# Altium integrated library Control_board.IntLib: 3 symbols
Pins are listed as number, name and electrical type; pins without a type are passive.

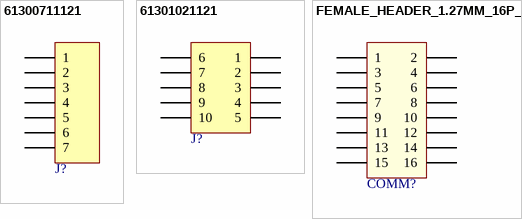
[diagram p0: symbols 61300711121 to FEMALE_HEADER_1.27MM_16P_2x8]

## 61300711121
designator J?, comment 07p  (value not drawn)
WR-PHD 2.54 mm THT Pin Header, 07p; Part Number: 61300711121; Vendor: Wurth Elektronik; Value: 07p
footprint 61300711121
pins: 1, 2, 3, 4, 5, 6, 7

## 61301021121
designator J?, comment 10p  (value not drawn)
WR-PHD 2.54 mm THT Dual Pin Header, 10p; Part Number: 61301021121; Vendor: Wurth Elektronik; Value: 10p
footprint 61301021121
pins: 1, 2, 3, 4, 5, 6, 7, 8, 9, 10

## FEMALE_HEADER_1.27MM_16P_2x8
designator COMM?  (value not drawn)
1.27mm THT Straight Two Row Socket Header, 16p; Part Number: 20021311-00016T4LF; Vendor: Amphenol FCI
footprint Two Row Socket 1.27, 16p, Vert (Socket Header, Dual Row, Pitch 1.27mm, 16p)
pins: 1, 2, 3, 4, 5, 6, 7, 8, 9, 10, 11, 12, 13, 14, 15, 16